# EAGLE library part STM32F103RCT (library SmartMDC)
STMicroelectronics Medium-density performance line ARM-based 32-bit MCU with 128 KB Flash, USB, CAN, 7 timers, 2 ADCs, 9 communication interfaces
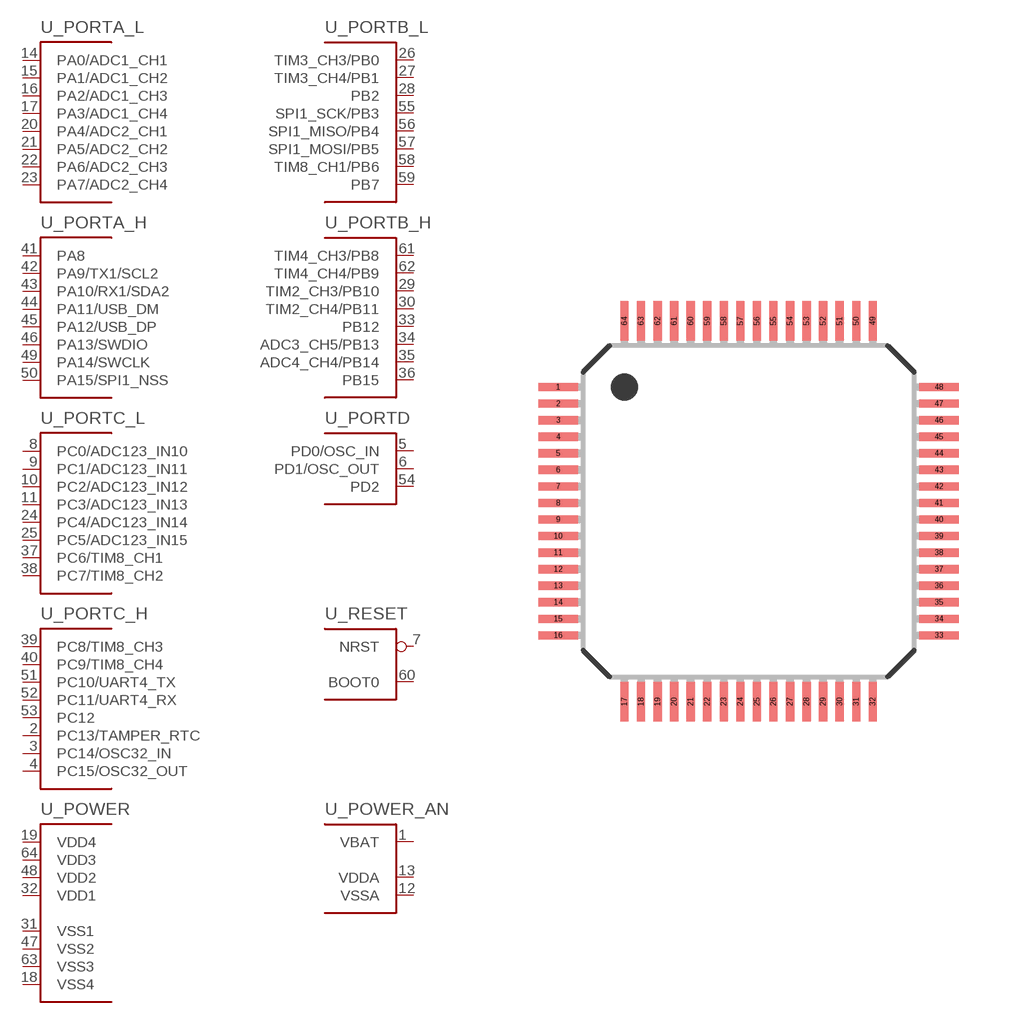
[diagram p0: symbol with the pads of LQFP-64; footprint LQFP-64]

Designator prefix U; gates _POWER_AN=BAT_AN_M _RESET=BOOT_RST _PORTA_H=PORT_A_H _PORTA_L=PORT_A_L _PORTB_H=PORT_B_H _PORTB_L=PORT_B_L _PORTD=PORT_D_3 _PORTC_H=PORT_C_H _PORTC_L=PORT_C_L _POWER=VSS_VDD_M

## STM32F103RCT  [LQFP-64]
1  _POWER_AN:VBAT  pwr
2  _PORTC_H:PC13/TAMPER_RTC
3  _PORTC_H:PC14/OSC32_IN
4  _PORTC_H:PC15/OSC32_OUT
5  _PORTD:PD0/OSC_IN  in
6  _PORTD:PD1/OSC_OUT  out
7  _RESET:NRST  in
8  _PORTC_L:PC0/ADC123_IN10
9  _PORTC_L:PC1/ADC123_IN11
10  _PORTC_L:PC2/ADC123_IN12
11  _PORTC_L:PC3/ADC123_IN13
12  _POWER_AN:VSSA  pwr
13  _POWER_AN:VDDA  pwr
14  _PORTA_L:PA0/ADC1_CH1
15  _PORTA_L:PA1/ADC1_CH2
16  _PORTA_L:PA2/ADC1_CH3
17  _PORTA_L:PA3/ADC1_CH4
18  _POWER:VSS4  pwr
19  _POWER:VDD4  pwr
20  _PORTA_L:PA4/ADC2_CH1
21  _PORTA_L:PA5/ADC2_CH2
22  _PORTA_L:PA6/ADC2_CH3
23  _PORTA_L:PA7/ADC2_CH4
24  _PORTC_L:PC4/ADC123_IN14
25  _PORTC_L:PC5/ADC123_IN15
26  _PORTB_L:TIM3_CH3/PB0
27  _PORTB_L:TIM3_CH4/PB1
28  _PORTB_L:PB2
29  _PORTB_H:TIM2_CH3/PB10
30  _PORTB_H:TIM2_CH4/PB11
31  _POWER:VSS1  pwr
32  _POWER:VDD1  pwr
33  _PORTB_H:PB12
34  _PORTB_H:ADC3_CH5/PB13
35  _PORTB_H:ADC4_CH4/PB14
36  _PORTB_H:PB15
37  _PORTC_L:PC6/TIM8_CH1
38  _PORTC_L:PC7/TIM8_CH2
39  _PORTC_H:PC8/TIM8_CH3
40  _PORTC_H:PC9/TIM8_CH4
41  _PORTA_H:PA8
42  _PORTA_H:PA9/TX1/SCL2
43  _PORTA_H:PA10/RX1/SDA2
44  _PORTA_H:PA11/USB_DM
45  _PORTA_H:PA12/USB_DP
46  _PORTA_H:PA13/SWDIO
47  _POWER:VSS2  pwr
48  _POWER:VDD2  pwr
49  _PORTA_H:PA14/SWCLK
50  _PORTA_H:PA15/SPI1_NSS
51  _PORTC_H:PC10/UART4_TX
52  _PORTC_H:PC11/UART4_RX
53  _PORTC_H:PC12
54  _PORTD:PD2
55  _PORTB_L:SPI1_SCK/PB3
56  _PORTB_L:SPI1_MISO/PB4
57  _PORTB_L:SPI1_MOSI/PB5
58  _PORTB_L:TIM8_CH1/PB6
59  _PORTB_L:PB7
60  _RESET:BOOT0  in
61  _PORTB_H:TIM4_CH3/PB8
62  _PORTB_H:TIM4_CH4/PB9
63  _POWER:VSS3  pwr
64  _POWER:VDD3  pwr

## Footprint LQFP-64 (pad centres in mm)
LQFP-64 package
smd 1.2 x 0.25: 1 -5.75,3.75; 2 -5.75,3.25; 3 -5.75,2.75; 4 -5.75,2.25; 5 -5.75,1.75; 6 -5.75,1.25; 7 -5.75,0.75; 8 -5.75,0.25; 9 -5.75,-0.25; 10 -5.75,-0.75; 11 -5.75,-1.25; 12 -5.75,-1.75; 13 -5.75,-2.25; 14 -5.75,-2.75; 15 -5.75,-3.25; 16 -5.75,-3.75; 33 5.75,-3.75; 34 5.75,-3.25; 35 5.75,-2.75; 36 5.75,-2.25; 37 5.75,-1.75; 38 5.75,-1.25; 39 5.75,-0.75; 40 5.75,-0.25; 41 5.75,0.25; 42 5.75,0.75; 43 5.75,1.25; 44 5.75,1.75; 45 5.75,2.25; 46 5.75,2.75; 47 5.75,3.25; 48 5.75,3.75
smd 0.25 x 1.2: 17 -3.75,-5.75; 18 -3.25,-5.75; 19 -2.75,-5.75; 20 -2.25,-5.75; 21 -1.75,-5.75; 22 -1.25,-5.75; 23 -0.75,-5.75; 24 -0.25,-5.75; 25 0.25,-5.75; 26 0.75,-5.75; 27 1.25,-5.75; 28 1.75,-5.75; 29 2.25,-5.75; 30 2.75,-5.75; 31 3.25,-5.75; 32 3.75,-5.75; 49 3.75,5.75; 50 3.25,5.75; 51 2.75,5.75; 52 2.25,5.75; 53 1.75,5.75; 54 1.25,5.75; 55 0.75,5.75; 56 0.25,5.75; 57 -0.25,5.75; 58 -0.75,5.75; 59 -1.25,5.75; 60 -1.75,5.75; 61 -2.25,5.75; 62 -2.75,5.75; 63 -3.25,5.75; 64 -3.75,5.75